# Altium footprint library 连接件.PcbLib: 10 footprints
Each footprint in its own frame and in the unit in brackets; x right, y up, seen from the top. Pads: shape width x height; smd on the part's side, far side on the other; paste and mask are expansions set on the pad; w line width, h text height; cw(c..) or ccw(c..) is an arc to the next point about the centre after c.
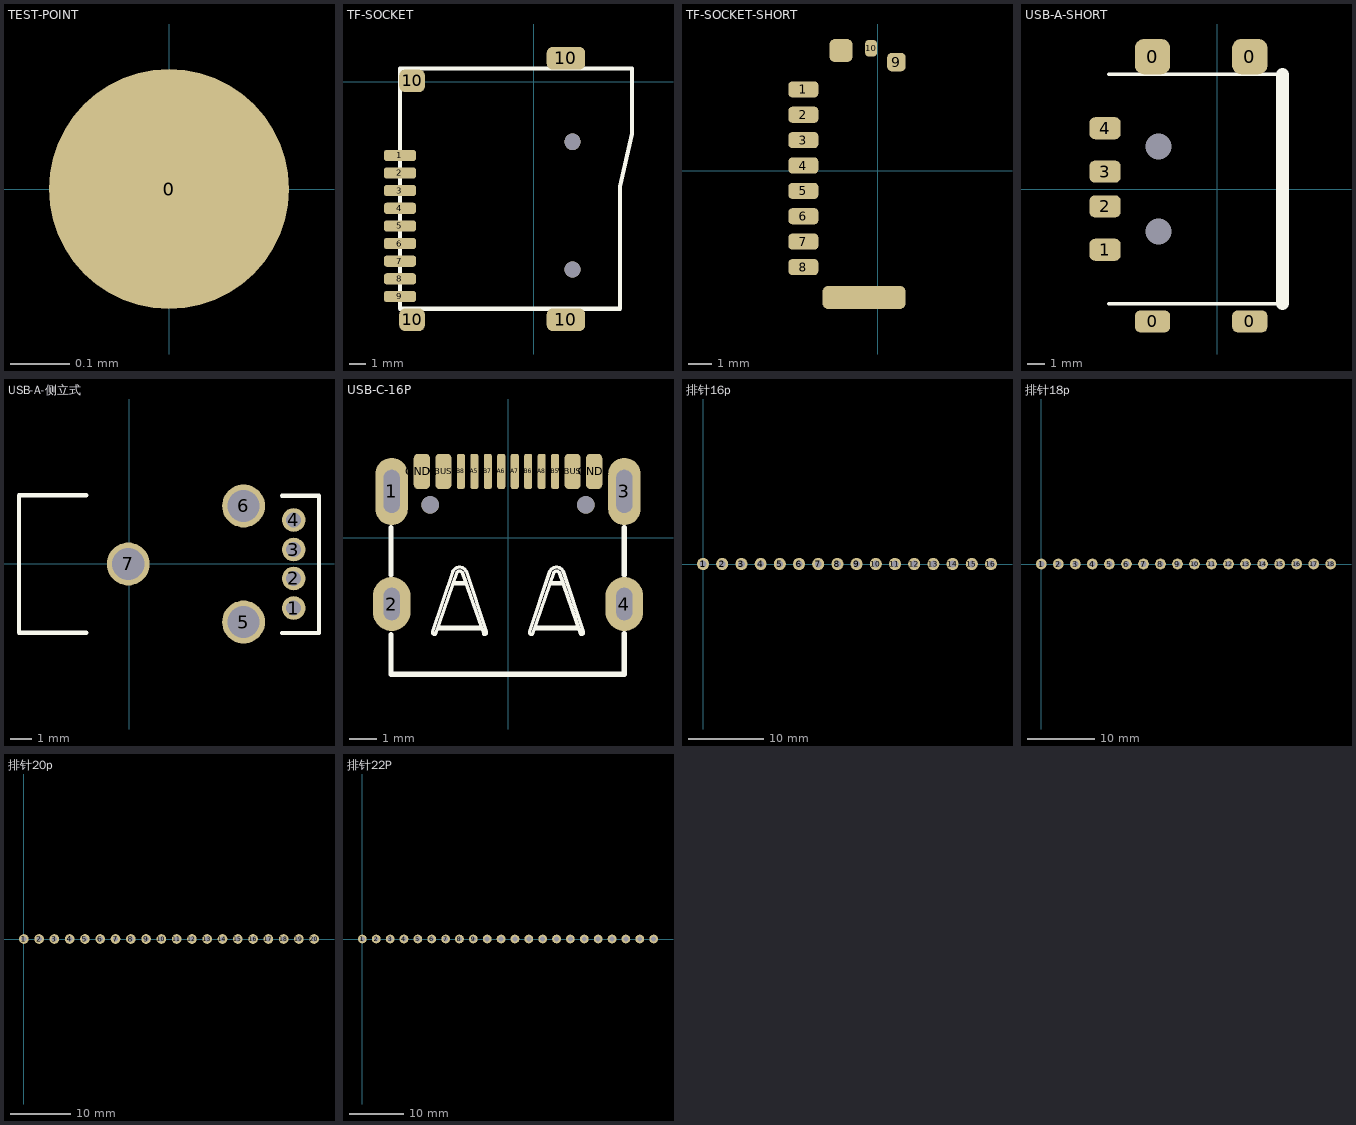
[diagram p0: the footprints below, top view; thin cyan lines are the x and y axes]

## TEST-POINT [mil]
height 169.29
pads (1):
  rrect100% 16x16 smd: 0(0,0.01)

## TF-SOCKET [mm]
height 4.3
pads (13):
  rrect50% 2x0.7 smd: 1(-8.331,-4.582) 2(-8.331,-5.682) 3(-8.331,-6.782) 4(-8.331,-7.882) 5(-8.331,-8.982) 6(-8.331,-10.082) 7(-8.331,-11.182) 8(-8.331,-12.282) 9(-8.331,-13.382)
  rrect50% 1.6x1.4 smd: 10(-7.577,-14.836) 10(-7.577,0.068)
  rrect50% 2.4x1.4 smd: 10(2.023,-14.836) 10(2.023,1.476)
via 2.423,-3.732 diameter 1 hole 1
via 2.423,-11.712 diameter 1 hole 1
Top Overlay:
  lines w0.254: -8.331,-14.148 -8.331,0.838 6.147,0.838 6.147,-3.226 5.385,-6.528 5.385,-14.148 -8.331,-14.148
3D body "SD MICRO-C.stp": height 1.84, standoff -0.64, extent -8.636,-15.058 6.39,1.342

## TF-SOCKET-SHORT [mm]
pads (12):
  rrect50% 1.3x0.7 smd: 1(-3.231,3.518) 2(-3.231,2.418) 3(-3.231,1.318) 4(-3.231,0.218) 5(-3.231,-0.882) 6(-3.231,-1.982) 7(-3.231,-3.082) 8(-3.231,-4.182)
  rrect50% 0.8x0.8 smd: 9(0.8,4.7)
  rrect50% 0.5x0.7 smd: 10(-0.3,5.3)
  rrect50% 1x1 smd: ""(-1.6,5.2)
  rrect50% 3.6x1 smd: ""(-0.6,-5.5)
3D body "3.stp": height 2.27, standoff -0.02, extent -4.514,-5.736 0.936,5.664

## USB-A-SHORT [mm]
pads (10):
  rrect50% 2.032x1.27 smd: 0(-3.738,-7.625) 0(1.862,-7.625)
  rrect50% 2.032x2.032 smd: 0(-3.738,7.625) 0(1.862,7.625)
  rrect50% 1.8x1.27 smd: 1(-6.476,-3.5) 2(-6.476,-1) 3(-6.476,1) 4(-6.476,3.5)
  round 0.6 hole 1.5 unplated: MH1(-3.4,2.45) MH2(-3.4,-2.45)
Top Overlay:
  lines w0.2: -6.25,-6.6 -0.6,-6.6 3.75,-6.6 ; -6.25,6.6 -0.6,6.6 3.75,6.6
  lines w0.762: 3.75,-6.6 3.75,6.6
3D body "1.stp": height 6.4, standoff -0.1, extent -7.252,-8.618 3.81,8.618

## USB-A-侧立式 [mm]
pads (7):
  round 1.1 hole 0.7: 1(7.657,-2.052) 2(7.657,-0.675) 3(7.657,0.675) 4(7.657,2.052)
  round 2 hole 1.5: 5(5.322,-2.704) 6(5.322,2.704) 7(-0.051,0)
Top Overlay:
  lines w0.2: -2.008,3.2 -5.143,3.2 -5.143,-3.2 -2.007,-3.2 ; 7.112,-3.22 8.837,-3.22 8.837,3.18 7.112,3.18
3D body "Universal USB.STEP": height 14.8, standoff -2.85, extent -5.145,-3.52 8.655,3.48

## USB-C-16P [mm]
pads (18):
  oval 1.2x2.5 hole 0.6 slot 1.6 at 90 deg: 1(-4.32,1.718) 3(4.32,1.717)
  oval 1.4x2 hole 0.6 slot 1.2 at 90 deg: 2(-4.32,-2.462) 4(4.32,-2.462)
  rrect50% 0.3x1.3 smd mask+0.064: A5(-1.25,2.462) A6(-0.25,2.462) A7(0.25,2.462) A8(1.25,2.462) B5(1.75,2.462) B6(0.75,2.462) B7(-0.75,2.462) B8(-1.75,2.462)
  rrect50% 0.6x1.3 smd mask+0.064: GND1(-3.2,2.462) GND2(3.2,2.462) VBUS1(-2.4,2.462) VBUS2(2.4,2.462)
  round 0.65 hole 0.65 unplated mask+0: ""(-2.89,1.218) ""(2.89,1.218)
Top Overlay:
  lines w0.12: -2.623,-3.39 -0.973,-3.39 ; -2.598,-3.315 -0.998,-3.315 ; -2.048,-1.715 -1.548,-1.715 ; -2.023,-1.665 -1.573,-1.665 ; 0.977,-3.39 2.627,-3.39 ; 1.002,-3.315 2.602,-3.315 ; 1.552,-1.715 2.052,-1.715 ; 1.577,-1.665 2.027,-1.665 ; -1.713,-1.275 ccw(c-1.798,-1.361) -1.798,-1.24 ccw(c-1.798,-1.361) -1.883,-1.275 -1.898,-1.29 -2.698,-3.59 cw(c-2.723,-3.515) -2.798,-3.49 -2.048,-1.24 -1.969,-1.161 cw(c-1.798,-1.331) -1.798,-1.09 cw(c-1.798,-1.331) -1.627,-1.161 -1.548,-1.24 -0.798,-3.49 cw(c-0.873,-3.515) -0.898,-3.59 -1.698,-1.29 ; -1.713,-1.275 -1.698,-1.29 ; -1.713,-1.275 -1.698,-1.29 ; 1.702,-1.29 1.717,-1.275 ; 1.702,-1.29 0.902,-3.59 cw(c0.877,-3.515) 0.802,-3.49 1.552,-1.24 1.631,-1.161 cw(c1.802,-1.331) 1.802,-1.09 cw(c1.802,-1.331) 1.973,-1.161 2.052,-1.24 2.802,-3.49 cw(c2.727,-3.515) 2.702,-3.59 1.902,-1.29 1.887,-1.275 ccw(c1.802,-1.361) 1.802,-1.24 ccw(c1.802,-1.361) 1.717,-1.275 ; 1.702,-1.29 1.717,-1.275
  lines w0.2: -4.343,-3.593 -4.343,-5.066 4.32,-5.066 4.32,-3.562 ; -4.343,-1.385 -4.343,0.37 ; 4.32,-1.382 4.32,0.373
3D body "1.step": height 3.26, standoff -1, extent -4.475,-5.083 4.475,2.667

## 排针16p [mm]
pads (16):
  round 1.6 hole 0.9: 1(0,0) 2(2.54,0) 3(5.08,0) 4(7.62,0) 5(10.16,0) 6(12.7,0) 7(15.24,0) 8(17.78,0) 9(20.32,0) 10(22.86,0) 11(25.4,0) 12(27.94,0) 13(30.48,0) 14(33.02,0) 15(35.56,0) 16(38.1,0)

## 排针18p [mm]
pads (18):
  round 1.6 hole 0.9: 1(0,0) 2(2.54,0) 3(5.08,0) 4(7.62,0) 5(10.16,0) 6(12.7,0) 7(15.24,0) 8(17.78,0) 9(20.32,0) 10(22.86,0) 11(25.4,0) 12(27.94,0) 13(30.48,0) 14(33.02,0) 15(35.56,0) 16(38.1,0) 17(40.64,0) 18(43.18,0)

## 排针20p [mm]
pads (20):
  round 1.6 hole 0.9: 1(0,0) 2(2.54,0) 3(5.08,0) 4(7.62,0) 5(10.16,0) 6(12.7,0) 7(15.24,0) 8(17.78,0) 9(20.32,0) 10(22.86,0) 11(25.4,0) 12(27.94,0) 13(30.48,0) 14(33.02,0) 15(35.56,0) 16(38.1,0) 17(40.64,0) 18(43.18,0) 19(45.72,0) 20(48.26,0)

## 排针22P [mm]
pads (22):
  round 1.6 hole 0.9: 1(0,0) 2(2.54,0) 3(5.08,0) 4(7.62,0) 5(10.16,0) 6(12.7,0) 7(15.24,0) 8(17.78,0) 9(20.32,0) 10(22.86,0) 11(25.4,0) 12(27.94,0) 13(30.48,0) 14(33.02,0) 15(35.56,0) 16(38.1,0) 17(40.64,0) 18(43.18,0) 19(45.72,0) 20(48.26,0) 21(50.8,0) 22(53.34,0)